# Altium footprint library MOVTP20V275N.PcbLib: 1 footprints
Each footprint in its own frame and in the unit in brackets; x right, y up, seen from the top. Pads: shape width x height; smd on the part's side, far side on the other; paste and mask are expansions set on the pad; w line width, h text height; cw(c..) or ccw(c..) is an arc to the next point about the centre after c.
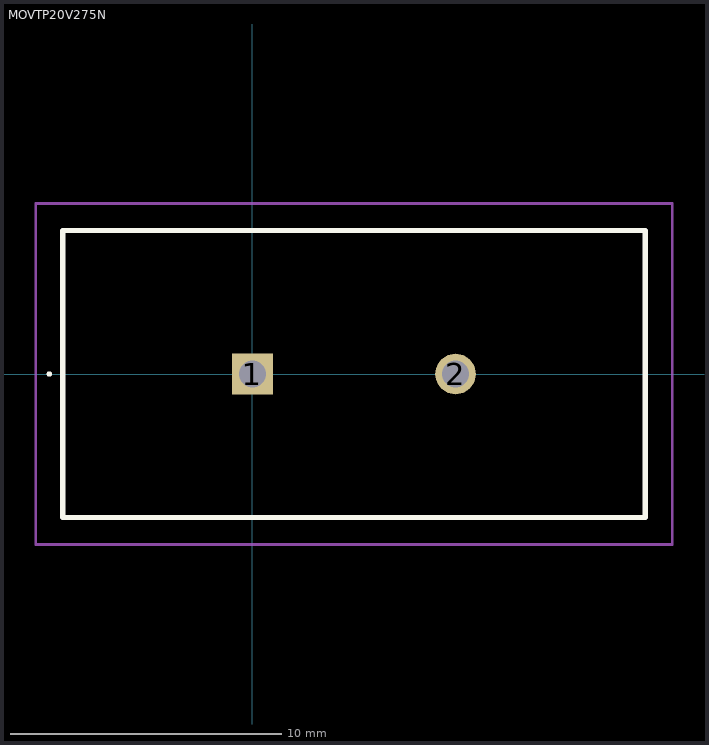
[diagram p0: the footprint, top view; thin cyan lines are the x and y axes]

## MOVTP20V275N [mm]
pads (2):
  rect 1.5x1.5 hole 1: 1(0,0)
  round 1.5 hole 1: 2(7.5,0)
Top Overlay:
  lines w0.1: -7.55,0 cw(c-7.5,0) -7.45,0 ; -7.55,0 -7.55,0 ; -7.55,0 ccw(c-7.5,0) -7.45,0 ; -7.45,0 -7.45,0
  lines w0.2: -7,-5.3 14.5,-5.3 14.5,5.3 -7,5.3 -7,-5.3
Mechanical 15:
  lines w0.1: -7,-5.3 14.5,-5.3 14.5,5.3 -7,5.3 -7,-5.3
Mechanical 20:
  lines w0.1: -8,-6.3 15.5,-6.3 15.5,6.3 -8,6.3 -8,-6.3